# EAGLE library part ENCODER (library rocket)
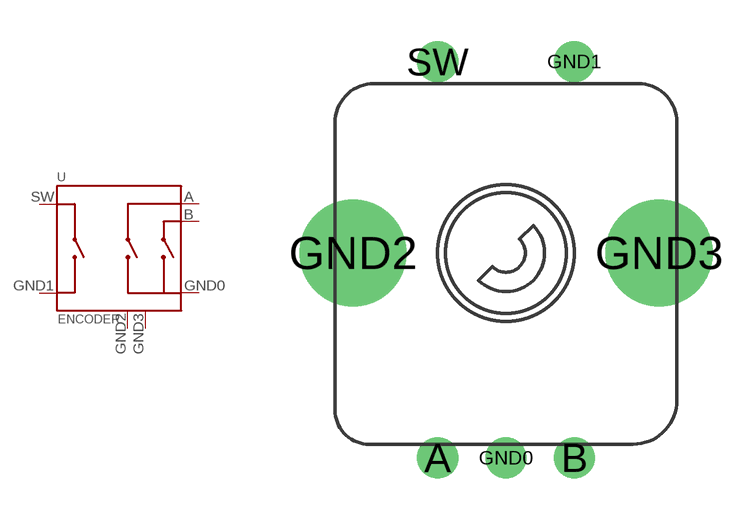
[diagram p3: symbol with the pads of ENCODER; footprint ENCODER]

Designator prefix -

## ENCODER  [ENCODER]
A  A
B  B
GND0  GND0
GND1  GND1
GND2  GND2
GND3  GND3
SW  SW

## Footprint ENCODER (pad centres in mm)
drill 1: A -2.5,0; B 2.5,0; GND0 0,0; GND1 2.5,14.5; SW -2.5,14.5
drill 2.9: GND2 -5.6,7.5; GND3 5.6,7.5